# Altium footprint library PCBLibrary.PcbLib: 41 footprints (part 2 of 3)
Each footprint in its own frame and in the unit in brackets; x right, y up, seen from the top. Pads: shape width x height; smd on the part's side, far side on the other; paste and mask are expansions set on the pad; w line width, h text height; cw(c..) or ccw(c..) is an arc to the next point about the centre after c.
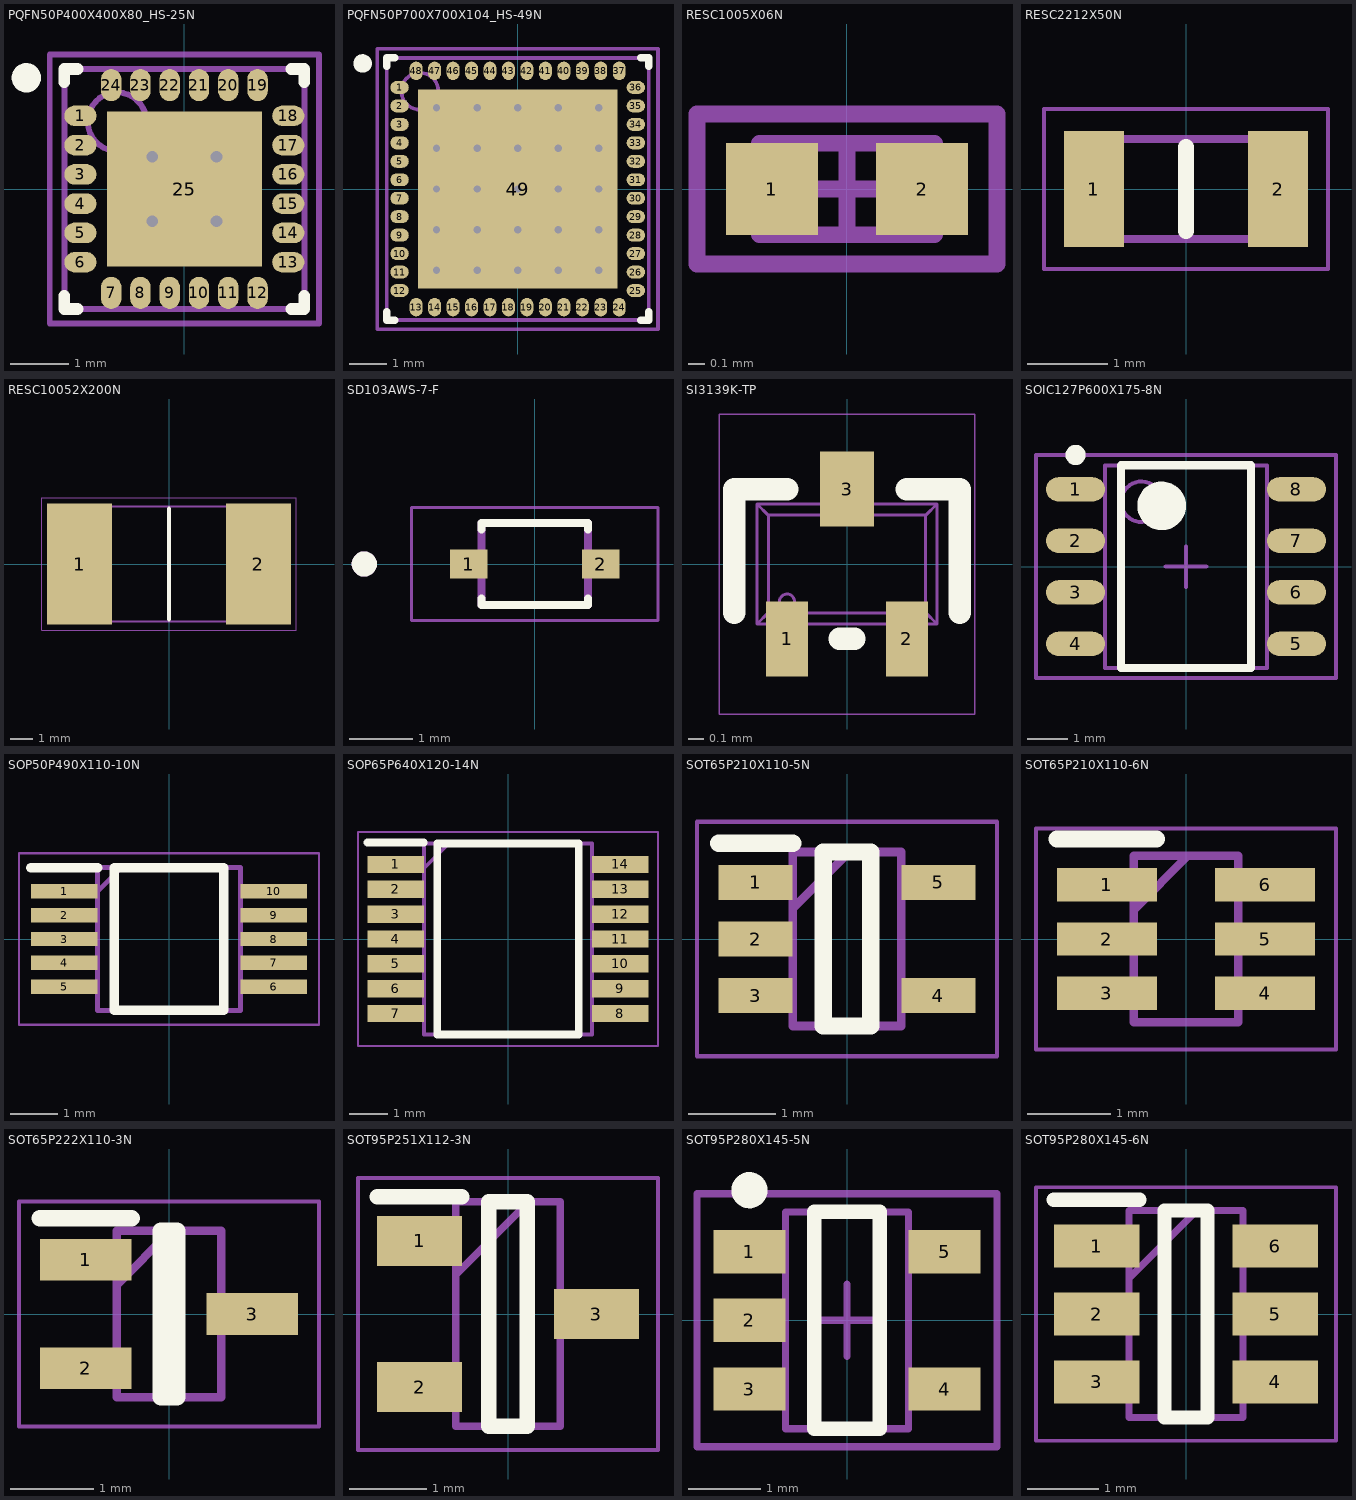
[diagram p1: the footprints below, top view; thin cyan lines are the x and y axes]

## PQFN50P400X400X80_HS-25N [mm] "PQFN, 24-Leads, Body 4,00x4,00mm, Pitch 0,50mm, Thermal Pad 2,65x2,65mm, IPC Medium Density"
height 0.8
pads (25):
  oval 0.55x0.35 smd: 1(-1.775,1.25) 2(-1.775,0.75) 3(-1.775,0.25) 4(-1.775,-0.25) 5(-1.775,-0.75) 6(-1.775,-1.25) 13(1.775,-1.25) 14(1.775,-0.75) 15(1.775,-0.25) 16(1.775,0.25) 17(1.775,0.75) 18(1.775,1.25)
  oval 0.35x0.55 smd: 7(-1.25,-1.775) 8(-0.75,-1.775) 9(-0.25,-1.775) 10(0.25,-1.775) 11(0.75,-1.775) 12(1.25,-1.775) 19(1.25,1.775) 20(0.75,1.775) 21(0.25,1.775) 22(-0.25,1.775) 23(-0.75,1.775) 24(-1.25,1.775)
  rect 2.65x2.65 smd: 25(0,0)
via -0.55,0.55 diameter 0.5 hole 0.2
via 0.55,0.55 diameter 0.5 hole 0.2
via -0.55,-0.55 diameter 0.5 hole 0.2
via 0.55,-0.55 diameter 0.5 hole 0.2
Top Overlay:
  circle w0.25: c-2.7,1.9 r0.125
  lines w0.2: -2.05,-1.825 -2.05,-2.05 -1.825,-2.05 ; -2.05,1.825 -2.05,2.05 -1.825,2.05 ; 1.825,-2.05 2.05,-2.05 2.05,-1.825 ; 1.825,2.05 2.05,2.05 2.05,1.825
Top Assembly:
  circle w0.1: c-1.15,1.15 r0.5
  lines w0.1: -2.05,-2.05 -2.05,2.05 2.05,2.05 2.05,-2.05 -2.05,-2.05
Top Courtyard:
  lines w0.1: -0.5,0 0.5,0 ; 0,-0.5 0,0.5 ; -2.3,-2.3 -2.3,2.3 2.3,2.3 2.3,-2.3 -2.3,-2.3
Top Designator:
  text ".Designator" at -4.998,-0.333 h1
3D body "PQFN50P400X400X80_HS-25N.step": height 0.8, standoff 0, extent -2.05,-2.05 2.05,2.05

## PQFN50P700X700X104_HS-49N [mm] "PQFN, 48-Leads, Body 7,00x7,00mm, Pitch 0,50mm, Thermal Pad 5,40x5,40mm, IPC Medium Density"
height 1.04
pads (49):
  oval 0.5x0.35 smd: 1(-3.2,2.75) 2(-3.2,2.25) 3(-3.2,1.75) 4(-3.2,1.25) 5(-3.2,0.75) 6(-3.2,0.25) 7(-3.2,-0.25) 8(-3.2,-0.75) 9(-3.2,-1.25) 10(-3.2,-1.75) 11(-3.2,-2.25) 12(-3.2,-2.75) 25(3.2,-2.75) 26(3.2,-2.25) 27(3.2,-1.75) 28(3.2,-1.25) 29(3.2,-0.75) 30(3.2,-0.25) 31(3.2,0.25) 32(3.2,0.75) 33(3.2,1.25) 34(3.2,1.75) 35(3.2,2.25) 36(3.2,2.75)
  oval 0.35x0.5 smd: 13(-2.75,-3.2) 14(-2.25,-3.2) 15(-1.75,-3.2) 16(-1.25,-3.2) 17(-0.75,-3.2) 18(-0.25,-3.2) 19(0.25,-3.2) 20(0.75,-3.2) 21(1.25,-3.2) 22(1.75,-3.2) 23(2.25,-3.2) 24(2.75,-3.2) 37(2.75,3.2) 38(2.25,3.2) 39(1.75,3.2) 40(1.25,3.2) 41(0.75,3.2) 42(0.25,3.2) 43(-0.25,3.2) 44(-0.75,3.2) 45(-1.25,3.2) 46(-1.75,3.2) 47(-2.25,3.2) 48(-2.75,3.2)
  rect 5.4x5.4 smd: 49(0,0)
via -2.2,2.2 diameter 0.5 hole 0.2
via -1.1,2.2 diameter 0.5 hole 0.2
via 0,2.2 diameter 0.5 hole 0.2
via 1.1,2.2 diameter 0.5 hole 0.2
via 2.2,2.2 diameter 0.5 hole 0.2
via -2.2,1.1 diameter 0.5 hole 0.2
via -1.1,1.1 diameter 0.5 hole 0.2
via 0,1.1 diameter 0.5 hole 0.2
via 1.1,1.1 diameter 0.5 hole 0.2
via 2.2,1.1 diameter 0.5 hole 0.2
via -2.2,0 diameter 0.5 hole 0.2
via -1.1,0 diameter 0.5 hole 0.2
via 0,0 diameter 0.5 hole 0.2
via 1.1,0 diameter 0.5 hole 0.2
via 2.2,0 diameter 0.5 hole 0.2
via -2.2,-1.1 diameter 0.5 hole 0.2
via -1.1,-1.1 diameter 0.5 hole 0.2
via 0,-1.1 diameter 0.5 hole 0.2
via 1.1,-1.1 diameter 0.5 hole 0.2
via 2.2,-1.1 diameter 0.5 hole 0.2
via -2.2,-2.2 diameter 0.5 hole 0.2
via -1.1,-2.2 diameter 0.5 hole 0.2
via 0,-2.2 diameter 0.5 hole 0.2
via 1.1,-2.2 diameter 0.5 hole 0.2
via 2.2,-2.2 diameter 0.5 hole 0.2
Top Overlay:
  circle w0.25: c-4.2,3.4 r0.125
  lines w0.2: -3.55,-3.325 -3.55,-3.55 -3.325,-3.55 ; -3.55,3.325 -3.55,3.55 -3.325,3.55 ; 3.325,-3.55 3.55,-3.55 3.55,-3.325 ; 3.325,3.55 3.55,3.55 3.55,3.325
Top Assembly:
  circle w0.1: c-2.65,2.65 r0.5
  lines w0.1: -3.55,-3.55 -3.55,3.55 3.55,3.55 3.55,-3.55 -3.55,-3.55
Top Courtyard:
  lines w0.1: -0.5,0 0.5,0 ; 0,-0.5 0,0.5 ; -3.8,-3.8 -3.8,3.8 3.8,3.8 3.8,-3.8 -3.8,-3.8
Top Designator:
  text ".Designator" at 0.333,-4.998 h1
3D body "PQFN50P700X700X104_HS-49N.step": height 1.04, standoff 0, extent -3.55,-3.55 3.55,3.55

## RESC1005X06N [mm] "Chip Resistor, 2-Leads, Body 1,00x0,50mm, IPC Medium Density"
height 0.55
pads (2):
  rect 0.55x0.55 smd: 1(-0.45,0) 2(0.45,0)
Top Assembly:
  lines w0.1: -0.525,-0.275 -0.525,0.275 0.525,0.275 0.525,-0.275 -0.525,-0.275
Top Courtyard:
  lines w0.1: -0.275,0 0.275,0 ; 0,-0.275 0,0.275 ; -0.9,-0.45 -0.9,0.45 0.9,0.45 0.9,-0.45 -0.9,-0.45
Top Designator:
  text ".Designator" at -1.25,-0.083 h0.25
3D body "RESC1005X06N.step": height 0.55, standoff 0, extent -0.525,-0.275 0.525,0.275

## RESC2212X50N [mm]
pads (2):
  rect 0.75x1.45 smd: 1(-1.15,0) 2(1.15,0)
Top Overlay:
  lines w0.2: 0,-0.525 0,0.525
Mechanical 15:
  lines w0.1: -1.075,-0.625 -1.075,0.625 1.075,0.625 1.075,-0.625 -1.075,-0.625
Top 3D Body:
  lines w0.05: -1.775,-1 -1.775,1 1.775,1 1.775,-1 -1.775,-1
3D body "NB12K00103JBB.stp": height 0.5, standoff 0, extent -1.075,-0.625 1.075,0.625

## RESC10052X200N [mm]
pads (2):
  rect 2.95x5.5 smd: 1(-4.05,0) 2(4.05,0)
Top Overlay:
  lines w0.2: 0,-2.5 0,2.5
Mechanical 15:
  lines w0.1: -5,-2.6 -5,2.6 5,2.6 5,-2.6 -5,-2.6
Top 3D Body:
  lines w0.05: -5.775,-3 -5.775,3 5.775,3 5.775,-3 -5.775,-3
3D body "PSR400ITQFF0L50.stp": height 2, standoff 0, extent -5,-2.6 5,2.6

## SD103AWS-7-F [mm]
pads (2):
  rect 0.6x0.46 smd: 1(-1.05,0) 2(1.05,0)
Top Overlay:
  circle w0.2: c-2.71,0 r0.1
  lines w0.127: -0.85,-0.55 -0.85,-0.65 0.85,-0.65 0.85,-0.55 ; -0.85,0.55 -0.85,0.65 0.85,0.65 0.85,0.55
Mechanical 13:
  circle w0.2: c-2.71,0 r0.1
  lines w0.127: -0.85,-0.65 -0.85,0.65 0.85,0.65 0.85,-0.65 -0.85,-0.65
Mechanical 15:
  lines w0.05: -1.96,-0.9 1.96,-0.9 1.96,0.9 -1.96,0.9 -1.96,-0.9
3D body "step_temp.STEP": height 1.2, standoff 0, extent -1.25,-0.65 1.25,0.65

## SI3139K-TP [mm] "MOSFET P-Channel MOSFET"
pads (3):
  rect 0.28x0.5 smd paste+0 mask+0.075: 1(-0.4,-0.5) 2(0.4,-0.5)
  rect 0.36x0.5 smd paste+0 mask+0.075: 3(0,0.5)
Top Overlay:
  lines w0.15: -0.75,-0.325 -0.75,0.5 -0.4,0.5 ; -0.05,-0.5 0.05,-0.5 ; 0.4,0.5 0.75,0.5 0.75,-0.325
Mechanical 9:
  text "SOT-723" at -1.666,-0.25 h0.5
Mechanical 15:
  lines w0.01: -0.85,-1 -0.85,1 0.85,1 0.85,-1 -0.85,-1
Mechanical 17:
  circle w0.02: c-0.4,-0.25 r0.05
  lines w0.02: -0.525,-0.4 -0.525,-0.6 -0.275,-0.6 -0.275,-0.4 ; -0.15,0.4 -0.15,0.6 0.15,0.6 0.15,0.4 ; 0.275,-0.4 0.275,-0.6 0.525,-0.6 0.525,-0.4 ; -0.6,-0.4 0.6,-0.4 ; -0.6,-0.4 -0.6,0.4 ; -0.6,-0.4 -0.525,-0.325 ; -0.6,0.4 0.6,0.4 ; -0.6,0.4 -0.525,0.325 ; -0.525,-0.325 -0.525,0.325 ; -0.525,-0.325 0.525,-0.325 ; -0.525,0.325 0.525,0.325 ; 0.525,-0.325 0.6,-0.4 ; 0.525,-0.325 0.525,0.325 ; 0.525,0.325 0.6,0.4 ; 0.6,-0.4 0.6,0.4
3D body: height 0.55, standoff 0.45, extent -0.52,-0.32 0.52,0.32
3D body: height 0.45, standoff 0.35, extent -0.54,-0.34 0.54,0.34
3D body: height 0.35, standoff 0.25, extent -0.56,-0.36 0.56,0.36
3D body: height 0.4, standoff 0.4, extent 0.5,-0.3 0.5,0.3
3D body: height 0.25, standoff 0.15, extent -0.58,-0.38 0.58,0.38
3D body: height 0.15, standoff 0, extent -0.6,-0.4 0.6,0.4
3D body: height 0.15, standoff 0, extent 0.275,-0.6 0.525,-0.3
3D body: height 0.15, standoff 0, extent -0.525,-0.6 -0.275,-0.3
3D body: height 0.15, standoff 0, extent -0.15,0.3 0.15,0.6

## SOIC127P600X175-8N [mm] "SOIC, 8-Leads, Body 4,90x3,90mm, Pitch 1,27mm, IPC Medium Density"
height 1.75
pads (8):
  oval 1.45x0.6 smd: 1(-2.725,1.905) 2(-2.725,0.635) 3(-2.725,-0.635) 4(-2.725,-1.905) 5(2.725,-1.905) 6(2.725,-0.635) 7(2.725,0.635) 8(2.725,1.905)
Top Overlay:
  circle w0.25: c-2.725,2.755 r0.125
  circle w0.6: c-0.6,1.5 r0.3
  lines w0.2: -1.6,-2.5 -1.6,2.5 1.6,2.5 1.6,-2.5 -1.6,-2.5
Top Assembly:
  circle w0.1: c-1.1,1.6 r0.5
  lines w0.1: -2,-2.5 -2,2.5 2,2.5 2,-2.5 -2,-2.5
Top Courtyard:
  lines w0.1: -0.5,0 0.5,0 ; 0,-0.5 0,0.5 ; -3.7,-2.75 -3.7,2.75 3.7,2.75 3.7,-2.75 -3.7,-2.75
Top Designator:
  text ".Designator" at -4.998,-0.333 h1
3D body "SOIC127P600X175-8N.step": height 1.75, standoff 0, extent -3,-2.5 3,2.5

## SOP50P490X110-10N [mm]
pads (10):
  rect 1.4x0.3 smd: 1(-2.2,1) 2(-2.2,0.5) 3(-2.2,0) 4(-2.2,-0.5) 5(-2.2,-1) 6(2.2,-1) 7(2.2,-0.5) 8(2.2,0) 9(2.2,0.5) 10(2.2,1)
Top Overlay:
  lines w0.2: -2.9,1.5 -1.5,1.5 ; -1.15,-1.5 -1.15,1.5 1.15,1.5 1.15,-1.5 -1.15,-1.5
Mechanical 15:
  lines w0.1: -1.5,1 -1,1.5 ; -1.5,-1.5 -1.5,1.5 1.5,1.5 1.5,-1.5 -1.5,-1.5
Top 3D Body:
  lines w0.05: -3.15,-1.8 -3.15,1.8 3.15,1.8 3.15,-1.8 -3.15,-1.8
3D body "INA237AIDGST.stp": height 1.06, standoff -0.04, extent -2.463,-1.5 2.463,1.5

## SOP65P640X120-14N [mm]
pads (14):
  rect 1.475x0.45 smd: 1(-2.938,1.95) 2(-2.938,1.3) 3(-2.938,0.65) 4(-2.938,0) 5(-2.938,-0.65) 6(-2.938,-1.3) 7(-2.938,-1.95) 8(2.938,-1.95) 9(2.938,-1.3) 10(2.938,-0.65) 11(2.938,0) 12(2.938,0.65) 13(2.938,1.3) 14(2.938,1.95)
Top Overlay:
  lines w0.2: -3.675,2.525 -2.2,2.525 ; -1.85,-2.5 1.85,-2.5 1.85,2.5 -1.85,2.5 -1.85,-2.5
Mechanical 15:
  lines w0.1: -2.2,1.85 -1.55,2.5 ; -2.2,-2.5 2.2,-2.5 2.2,2.5 -2.2,2.5 -2.2,-2.5
Top 3D Body:
  lines w0.05: -3.925,-2.8 3.925,-2.8 3.925,2.8 -3.925,2.8 -3.925,-2.8
3D body "74VHC05FT.stp": height 1.1, standoff 0, extent -3.1,-2.75 3.3,2.75

## SOT65P210X110-5N [mm]
pads (5):
  rect 0.85x0.4 smd: 1(-1.05,0.65) 2(-1.05,0) 3(-1.05,-0.65) 4(1.05,-0.65) 5(1.05,0.65)
Top Overlay:
  lines w0.2: -1.475,1.1 -0.625,1.1 ; -0.275,-1 0.275,-1 0.275,1 -0.275,1 -0.275,-1
Mechanical 15:
  lines w0.1: -0.625,0.35 0.025,1 ; -0.625,-1 0.625,-1 0.625,1 -0.625,1 -0.625,-1
Top 3D Body:
  lines w0.05: -1.725,-1.35 1.725,-1.35 1.725,1.35 -1.725,1.35 -1.725,-1.35
3D body "MC74VHC1GT08DFT2G.stp": height 1.1, standoff 0, extent -0.95,-1 1.15,1

## SOT65P210X110-6N [mm]
pads (6):
  rect 1.2x0.4 smd: 1(-0.95,0.65) 2(-0.95,0) 3(-0.95,-0.65) 4(0.95,-0.65) 5(0.95,0) 6(0.95,0.65)
Top Overlay:
  lines w0.2: -1.55,1.2 -0.35,1.2
Mechanical 15:
  lines w0.1: -0.625,0.35 0.025,1 ; -0.625,-1 0.625,-1 0.625,1 -0.625,1 -0.625,-1
Top 3D Body:
  lines w0.05: -1.8,-1.325 1.8,-1.325 1.8,1.325 -1.8,1.325 -1.8,-1.325
3D body "TMP126DCKR.stp": height 1, standoff 0, extent -1.05,-1 1.05,1

## SOT65P222X110-3N [mm]
pads (3):
  rect 1.1x0.5 smd: 1(-1,0.65) 2(-1,-0.65) 3(1,0)
Top Overlay:
  lines w0.2: -1.55,1.15 -0.45,1.15 ; -0.1,-1 -0.1,1 0.1,1 0.1,-1 -0.1,-1
Mechanical 15:
  lines w0.1: -0.625,0.35 0.025,1 ; -0.625,-1 -0.625,1 0.625,1 0.625,-1 -0.625,-1
Top 3D Body:
  lines w0.05: -1.8,-1.35 -1.8,1.35 1.8,1.35 1.8,-1.35 -1.8,-1.35

## SOT95P251X112-3N [mm]
pads (3):
  rect 1.1x0.65 smd: 1(-1.15,0.95) 2(-1.15,-0.95) 3(1.15,0)
Top Overlay:
  lines w0.2: -1.7,1.525 -0.6,1.525 ; -0.25,-1.46 -0.25,1.46 0.25,1.46 0.25,-1.46 -0.25,-1.46
Mechanical 15:
  lines w0.1: -0.68,0.51 0.27,1.46 ; -0.68,-1.46 -0.68,1.46 0.68,1.46 0.68,-1.46 -0.68,-1.46
Top 3D Body:
  lines w0.05: -1.95,-1.77 -1.95,1.77 1.95,1.77 1.95,-1.77 -1.95,-1.77
3D body "FDV304P.stp": height 1.12, standoff 0, extent -1.255,-1.46 1.255,1.46

## SOT95P280X145-5N [mm] "SOT23, 5-Leads, Body 2,90x2,80mm, Pitch 0,95mm, IPC Medium Density"
height 1.45
pads (5):
  rect 1x0.6 smd: 1(-1.35,0.95) 2(-1.35,0) 3(-1.35,-0.95) 4(1.35,-0.95) 5(1.35,0.95)
Top Overlay:
  circle w0.25: c-1.35,1.8 r0.125
  lines w0.2: -0.45,-1.5 -0.45,1.5 0.45,1.5 0.45,-1.5 -0.45,-1.5
Top Assembly:
  lines w0.1: -0.85,-1.5 0.85,-1.5 0.85,1.5 -0.85,1.5 -0.85,-1.5
Top Courtyard:
  lines w0.1: -0.5,0 0.5,0 ; 0,-0.5 0,0.5 ; -2.075,-1.75 2.075,-1.75 2.075,1.75 -2.075,1.75 -2.075,-1.75
Top Designator:
  text ".Designator" at 0.333,-4.998 h1
3D body "SOT95P280X145-5N.step": height 1.45, standoff 0, extent -1.45,-1.5 1.45,1.5

## SOT95P280X145-6N [mm]
pads (6):
  rect 1.2x0.6 smd: 1(-1.25,0.95) 2(-1.25,0) 3(-1.25,-0.95) 4(1.25,-0.95) 5(1.25,0) 6(1.25,0.95)
Top Overlay:
  lines w0.2: -1.85,1.6 -0.65,1.6 ; -0.3,-1.45 0.3,-1.45 0.3,1.45 -0.3,1.45 -0.3,-1.45
Mechanical 15:
  lines w0.1: -0.8,0.5 0.15,1.45 ; -0.8,-1.45 0.8,-1.45 0.8,1.45 -0.8,1.45 -0.8,-1.45
Top 3D Body:
  lines w0.05: -2.1,-1.775 2.1,-1.775 2.1,1.775 -2.1,1.775 -2.1,-1.775
3D body "LMR50410Y3FQDBVRQ1.stp": height 1.2, standoff 0, extent -1.4,-1.45 1.4,1.45